# Altium integrated library TM4C.IntLib: 11 symbols
Pins are listed as number, name and electrical type; pins without a type are passive.

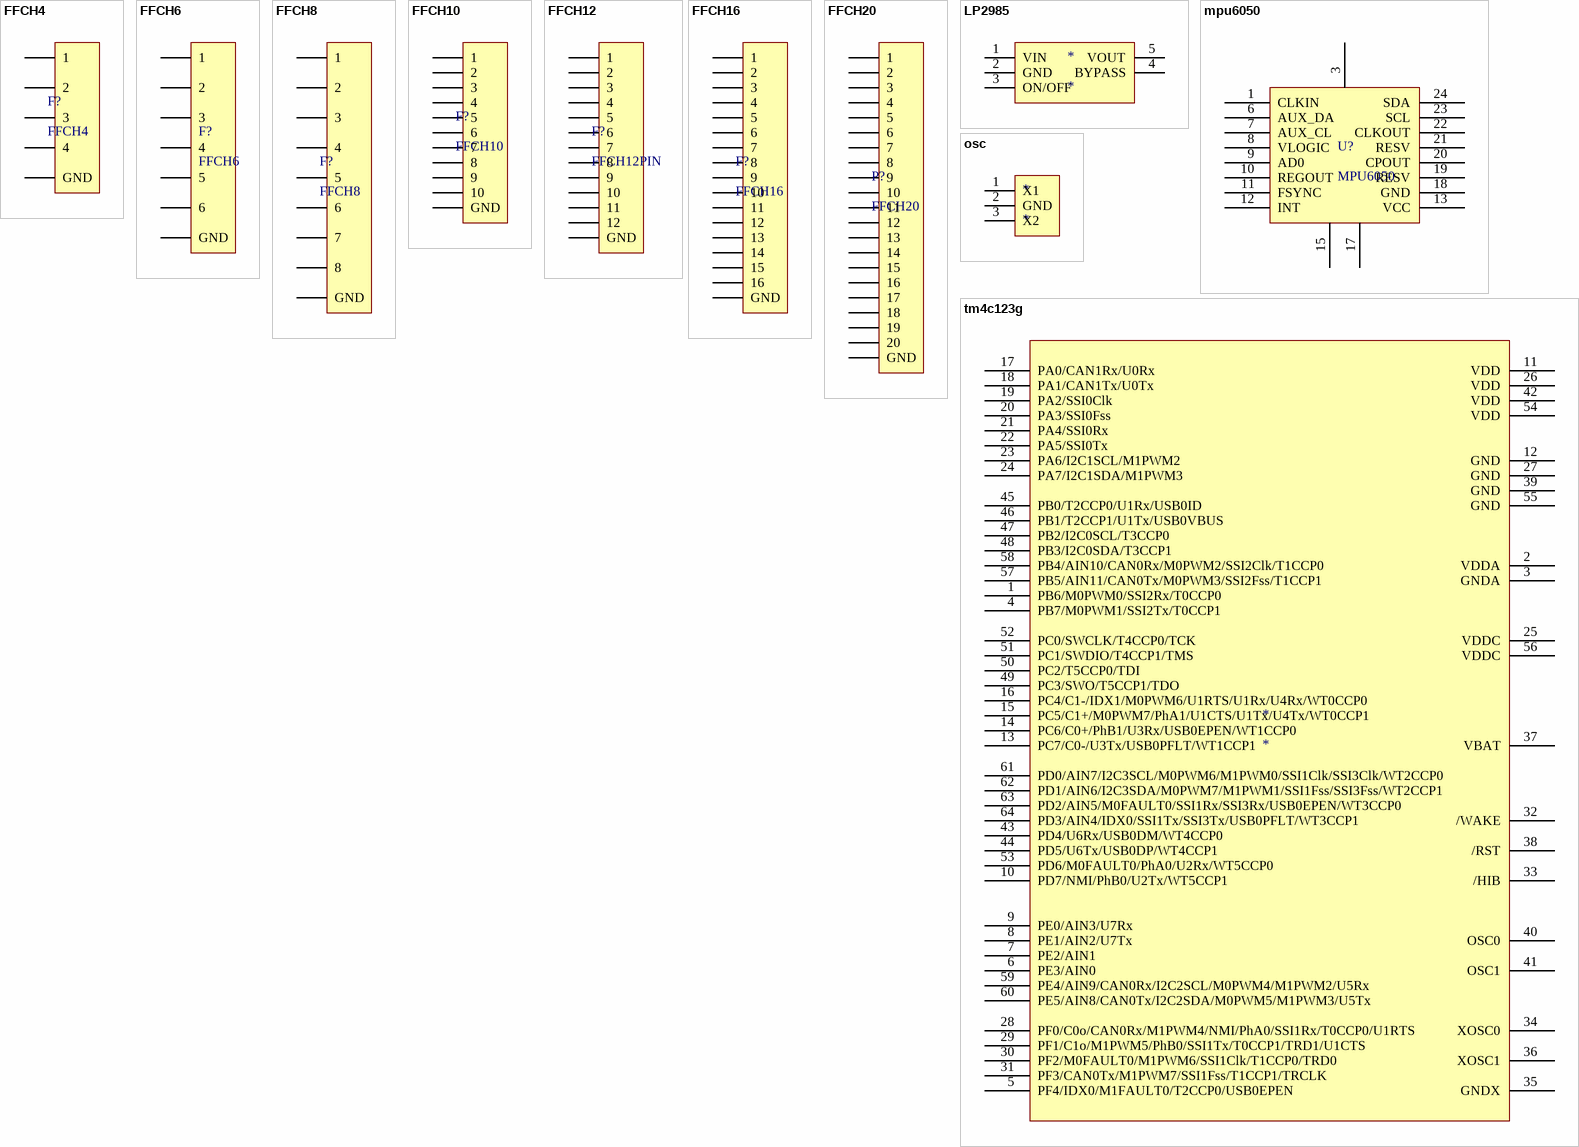
[diagram p0: symbols FFCH4 to tm4c123g]

## FFCH4
designator F?
footprint FFCH4PIN
pins: 0 GND, 1, 2, 3, 4

## FFCH6
designator F?
footprint FFCH6PIN
pins: 0 GND, 1, 2, 3, 4, 5, 6

## FFCH8
designator F?
footprint FFCH8PIN
pins: 0 GND, 1, 2, 3, 4, 5, 6, 7, 8

## FFCH10
designator F?
footprint FFCH10PIN
pins: 0 GND, 1, 2, 3, 4, 5, 6, 7, 8, 9, 10

## FFCH12
designator F?, comment FFCH12PIN
footprint FFCH12PIN
pins: 0 GND, 1, 2, 3, 4, 5, 6, 7, 8, 9, 10, 11, 12

## FFCH16
designator F?
footprint FFCH16PIN
pins: 0 GND, 1, 2, 3, 4, 5, 6, 7, 8, 9, 10, 11, 12, 13, 14, 15, 16

## FFCH20
designator P?
footprint FFCH20PIN
pins: 0 GND, 1, 2, 3, 4, 5, 6, 7, 8, 9, 10, 11, 12, 13, 14, 15, 16, 17, 18, 19, 20

## LP2985
designator *
footprint LDOLP2985
pins: 1 VIN, 2 GND, 3 ON/OFF, 4 BYPASS, 5 VOUT

## mpu6050
designator U?, comment MPU6050
footprint mpu6050
pins: 1 CLKIN, 3, 6 AUX_DA, 7 AUX_CL, 8 VLOGIC, 9 AD0, 10 REGOUT, 11 FSYNC, 12 INT, 13 VCC, 15, 17, 18 GND, 19 RESV, 20 CPOUT, 21 RESV, 22 CLKOUT, 23 SCL, 24 SDA

## osc
designator *
footprint osc3215
footprint osc3215
pins: 1 X1, 2 GND, 3 X2

## tm4c123g
designator *
footprint TM4C123GH
pins: 1 PB6/M0PWM0/SSI2Rx/T0CCP0, 2 VDDA, 3 GNDA, 4 PB7/M0PWM1/SSI2Tx/T0CCP1, 5 PF4/IDX0/M1FAULT0/T2CCP0/USB0EPEN, 6 PE3/AIN0, 7 PE2/AIN1, 8 PE1/AIN2/U7Tx, 9 PE0/AIN3/U7Rx, 10 PD7/NMI/PhB0/U2Tx/WT5CCP1, 11 VDD, 12 GND, 13 PC7/C0-/U3Tx/USB0PFLT/WT1CCP1, 14 PC6/C0+/PhB1/U3Rx/USB0EPEN/WT1CCP0, 15 PC5/C1+/M0PWM7/PhA1/U1CTS/U1Tx/U4Tx/WT0CCP1, 16 PC4/C1-/IDX1/M0PWM6/U1RTS/U1Rx/U4Rx/WT0CCP0, 17 PA0/CAN1Rx/U0Rx, 18 PA1/CAN1Tx/U0Tx, 19 PA2/SSI0Clk, 20 PA3/SSI0Fss, 21 PA4/SSI0Rx, 22 PA5/SSI0Tx, 23 PA6/I2C1SCL/M1PWM2, 24 PA7/I2C1SDA/M1PWM3, 25 VDDC, 26 VDD, 27 GND, 28 PF0/C0o/CAN0Rx/M1PWM4/NMI/PhA0/SSI1Rx/T0CCP0/U1RTS, 29 PF1/C1o/M1PWM5/PhB0/SSI1Tx/T0CCP1/TRD1/U1CTS, 30 PF2/M0FAULT0/M1PWM6/SSI1Clk/T1CCP0/TRD0, 31 PF3/CAN0Tx/M1PWM7/SSI1Fss/T1CCP1/TRCLK, 32 /WAKE, 33 /HIB, 34 XOSC0, 35 GNDX, 36 XOSC1, 37 VBAT, 38 /RST, 39 GND, 40 OSC0, 41 OSC1, 42 VDD, 43 PD4/U6Rx/USB0DM/WT4CCP0, 44 PD5/U6Tx/USB0DP/WT4CCP1, 45 PB0/T2CCP0/U1Rx/USB0ID, 46 PB1/T2CCP1/U1Tx/USB0VBUS, 47 PB2/I2C0SCL/T3CCP0, 48 PB3/I2C0SDA/T3CCP1, 49 PC3/SWO/T5CCP1/TDO, 50 PC2/T5CCP0/TDI, 51 PC1/SWDIO/T4CCP1/TMS, 52 PC0/SWCLK/T4CCP0/TCK, 53 PD6/M0FAULT0/PhA0/U2Rx/WT5CCP0, 54 VDD, 55 GND, 56 VDDC, 57 PB5/AIN11/CAN0Tx/M0PWM3/SSI2Fss/T1CCP1, 58 PB4/AIN10/CAN0Rx/M0PWM2/SSI2Clk/T1CCP0, 59 PE4/AIN9/CAN0Rx/I2C2SCL/M0PWM4/M1PWM2/U5Rx, 60 PE5/AIN8/CAN0Tx/I2C2SDA/M0PWM5/M1PWM3/U5Tx, 61 PD0/AIN7/I2C3SCL/M0PWM6/M1PWM0/SSI1Clk/SSI3Clk/WT2CCP0, 62 PD1/AIN6/I2C3SDA/M0PWM7/M1PWM1/SSI1Fss/SSI3Fss/WT2CCP1, 63 PD2/AIN5/M0FAULT0/SSI1Rx/SSI3Rx/USB0EPEN/WT3CCP0, 64 PD3/AIN4/IDX0/SSI1Tx/SSI3Tx/USB0PFLT/WT3CCP1